# Altium schematic symbol library LPF-LFCW-1062.SchLib: 1 symbol
Pins are listed as number, name and electrical type; pins without a type are passive.

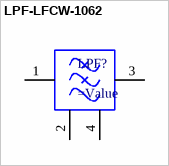
[diagram p0: symbol LPF-LFCW-1062]

## LPF-LFCW-1062
designator LPF?
pins: 1 RF-IN "RF Input", 2 GND, 3 RF-OUT "RF Input", 4 GND